# Altium footprint library ER23 P4 S2.PcbLib: 1 footprints
Each footprint in its own frame and in the unit in brackets; x right, y up, seen from the top. Pads: shape width x height; smd on the part's side, far side on the other; paste and mask are expansions set on the pad; w line width, h text height; cw(c..) or ccw(c..) is an arc to the next point about the centre after c.
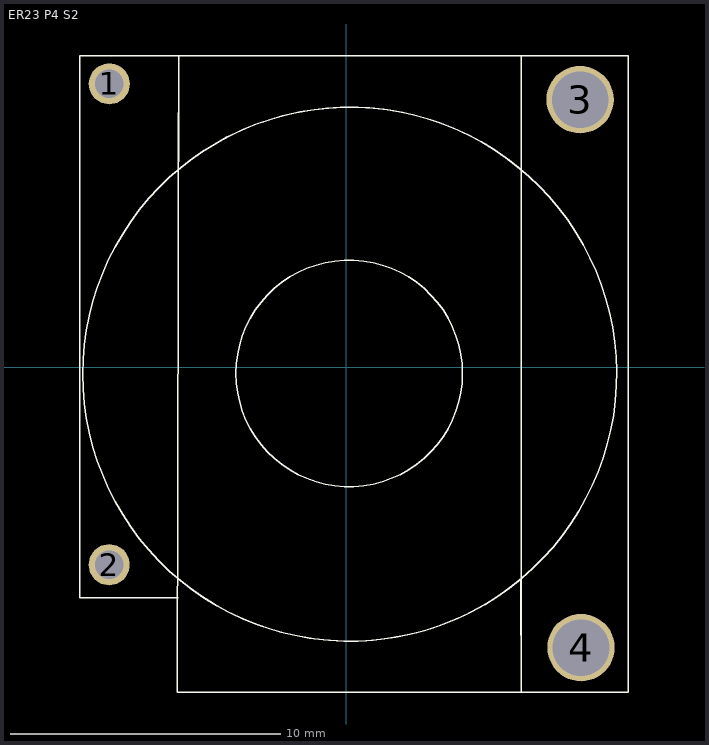
[diagram p0: the footprint, top view; thin cyan lines are the x and y axes]

## ER23 P4 S2 [mm]
pads (4):
  round 1.525 hole 1.05: 1(-8.793,10.517) 2(-8.797,-7.317)
  round 2.5 hole 2.1: 3(8.667,9.932) 4(8.703,-10.39)
Top Overlay:
  circle w0.05: c0.105,-0.221 r4.2
  circle w0.01: c0.105,-0.221 r4.2
  circle w0.05: c0.105,-0.221 r4.2
  circle w0.01: c0.105,-0.221 r4.2
  circle w0.01: c0.105,-0.221 r4.2
  lines w0.05: -9.881,11.557 -6.222,11.557 6.478,11.557 10.448,11.557 10.448,9.837 10.448,-12.043 6.478,-12.043 -6.267,-12.043 -6.223,11.557 ; -6.231,-8.547 -9.881,-8.547 -9.881,11.557 ; 6.477,7.356 6.477,11.557 ; -9.881,11.557 -6.223,11.557 ; -9.881,11.557 -6.223,11.557 ; -9.881,11.557 -6.223,11.557 ; -6.235,-7.837 ccw(c0.125,-0.25) 6.224,-8.049 ; -6.235,-7.837 ccw(c0.125,-0.25) 6.224,-8.049 ; -6.235,-7.837 ccw(c0.125,-0.25) 6.224,-8.049 ; -6.223,7.346 cw(c0.125,-0.25) 6.087,-8.154 ; -6.223,7.346 cw(c0.125,-0.25) 6.087,-8.154 ; -6.223,7.346 cw(c0.125,-0.25) 6.087,-8.154 ; -6.223,11.557 -6.23,7.355 -6.223,11.557 ; 6.477,-12.043 6.477,11.557 ; 6.477,-12.043 10.447,-12.043 ; 6.477,-12.043 6.468,-7.849 6.477,-12.043 ; 6.477,-12.043 10.447,-12.043 ; 6.477,11.557 10.447,11.557 ; 6.477,11.557 10.447,11.557 ; 10.447,-12.043 10.447,9.837 ; 10.447,-12.043 10.447,9.837 ; 10.447,9.837 10.447,11.557 ; 10.447,9.837 10.447,11.557 ; 6.47,-7.849 cw(c0.125,-0.25) 6.471,7.349 ccw(c0.125,-0.25) 6.47,-7.849